# EAGLE library part TCA6408AQ (library ICs)
I/O Expander 8 I2C, SMBus 400 kHz 16-TSSOP
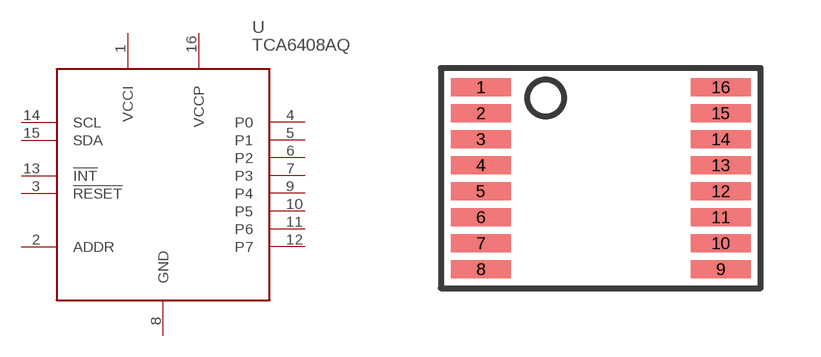
[diagram p344: symbol with the pads of TSSOP16; footprint TSSOP16]

Designator prefix U

## TCA6408AQ (DIGIKEY: 296-44902-1-ND; HEIGHT: 1.2; PRICE_PER: 0.85; VALUE: TCA6408AQPWRQ1)  [TSSOP16]
1  VCCI
2  ADDR
3  !RESET
4  P0
5  P1
6  P2
7  P3
8  GND
9  P4
10  P5
11  P6
12  P7
13  !INT
14  SCL
15  SDA
16  VCCP

## Footprint TSSOP16 (pad centres in mm)
smd 1.5 x 0.45: 1 -3,2.275; 2 -3,1.625; 3 -3,0.975; 4 -3,0.325; 5 -3,-0.325; 6 -3,-0.975; 7 -3,-1.625; 8 -3,-2.275; 9 3,-2.275; 10 3,-1.625; 11 3,-0.975; 12 3,-0.325; 13 3,0.325; 14 3,0.975; 15 3,1.625; 16 3,2.275